# EAGLE library part BD6231F (library BD6231f)
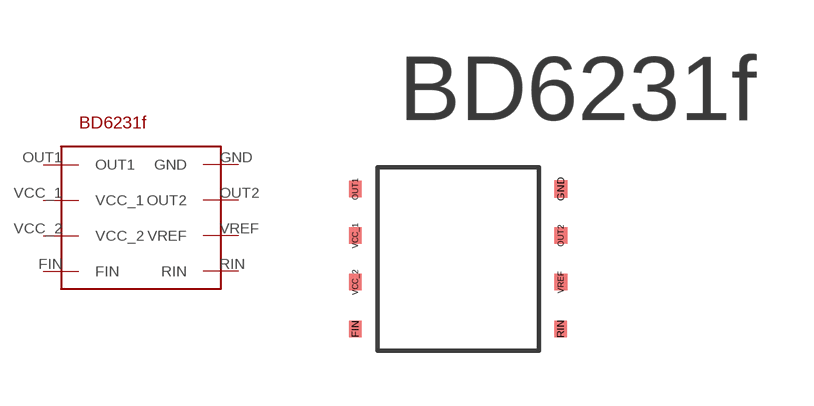
[diagram p0: symbol with the pads of BD6231F; footprint BD6231F]

Designator prefix -

## BD6231F  [BD6231F]
FIN  FIN
GND  GND
OUT1  OUT1
OUT2  OUT2
RIN  RIN
VCC_1  VCC_1
VCC_2  VCC_2
VREF  VREF

## Footprint BD6231F (pad centres in mm)
smd 0.35 x 0.45: FIN -5,-4.405; GND 0.6,-0.595; OUT1 -5,-0.595; OUT2 0.6,-1.865; RIN 0.595,-4.405; VCC_1 -5,-1.865; VCC_2 -5,-3.135; VREF 0.6,-3.135